# EAGLE library part CON_EDGE44_SMD (library Traficon)
SMD pads for cardedge on US-boards 22+22 pins .156" pitch
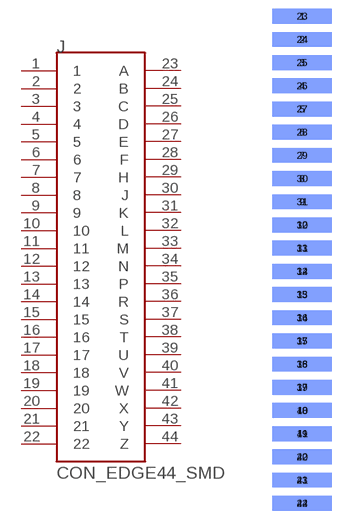
[diagram p49: symbol with the pads of SMD_CON_EDGE44; footprint SMD_CON_EDGE44]

Designator prefix J

## CON_EDGE44_SMD  [SMD_CON_EDGE44]
1  1
2  2
3  3
4  4
5  5
6  6
7  7
8  8
9  9
10  10
11  11
12  12
13  13
14  14
15  15
16  16
17  17
18  18
19  19
20  20
21  21
22  22
23  A
24  B
25  C
26  D
27  E
28  F
29  H
30  J
31  K
32  L
33  M
34  N
35  P
36  R
37  S
38  T
39  U
40  V
41  W
42  X
43  Y
44  Z

## Footprint SMD_CON_EDGE44 (pad centres in mm)
smd 10.16 x 2.54: 1 0,35.662; 2 0,31.699; 3 0,27.737; 4 0,23.774; 5 0,19.812; 6 0,15.85; 7 0,11.887; 8 0,7.925; 9 0,3.962; 10 0,0; 11 0,-3.962; 12 0,-7.925; 13 0,-11.887; 14 0,-15.85; 15 0,-19.812; 16 0,-23.774; 17 0,-27.737; 18 0,-31.699; 19 0,-35.662; 20 0,-39.624; 21 0,-43.586; 22 0,-47.549
smd 10.16 x 2.54 bottom: 23 0,35.662; 24 0,31.699; 25 0,27.737; 26 0,23.774; 27 0,19.812; 28 0,15.85; 29 0,11.887; 30 0,7.925; 31 0,3.962; 32 0,0; 33 0,-3.962; 34 0,-7.925; 35 0,-11.887; 36 0,-15.85; 37 0,-19.812; 38 0,-23.774; 39 0,-27.737; 40 0,-31.699; 41 0,-35.662; 42 0,-39.624; 43 0,-43.586; 44 0,-47.549